# Altium footprint library FUSES.PcbLib: 7 footprints
Each footprint in its own frame and in the unit in brackets; x right, y up, seen from the top. Pads: shape width x height; smd on the part's side, far side on the other; paste and mask are expansions set on the pad; w line width, h text height; cw(c..) or ccw(c..) is an arc to the next point about the centre after c.
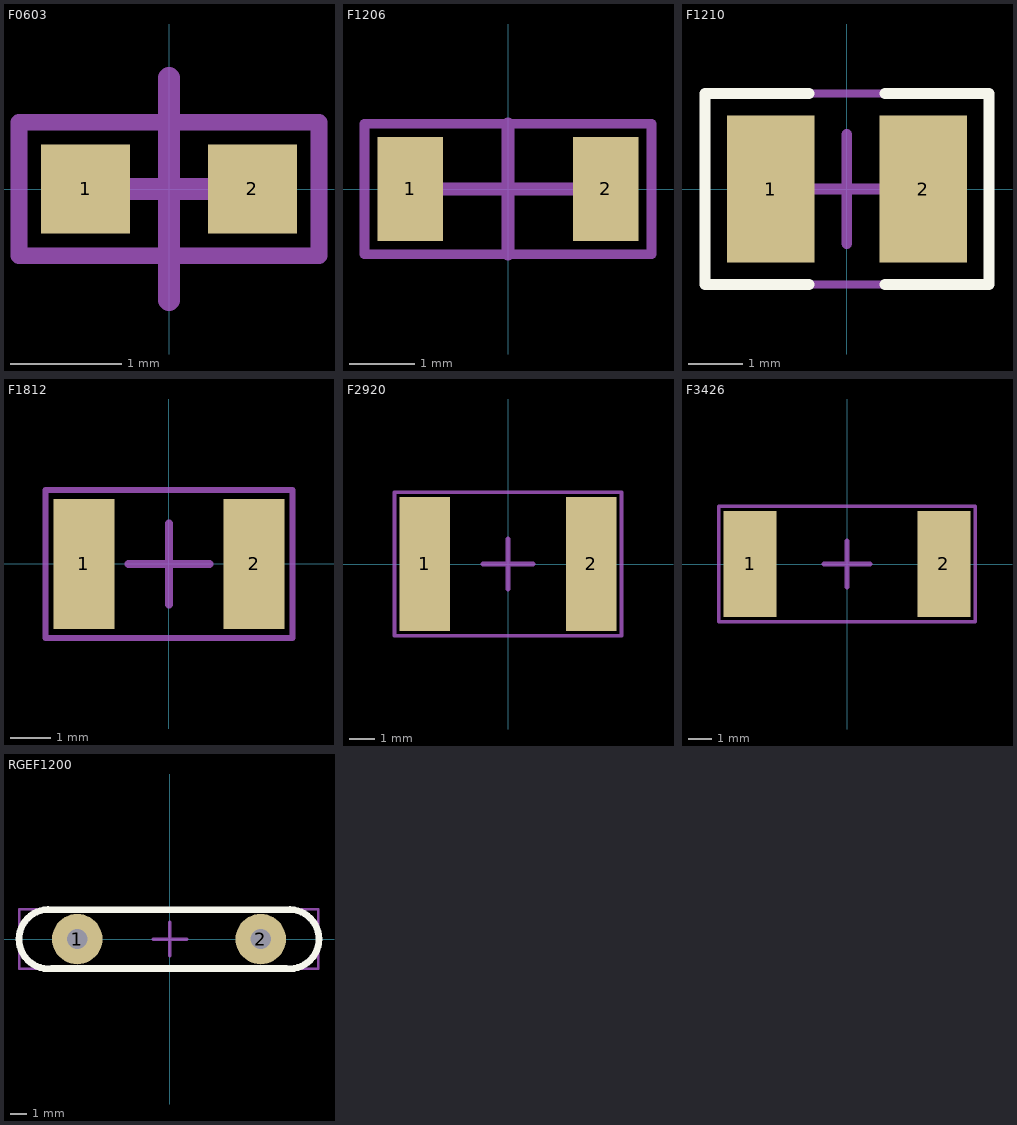
[diagram p0: the footprints below, top view; thin cyan lines are the x and y axes]

## F0603 [mm]
pads (2):
  rect 0.8x0.8 smd: 1(-0.75,0) 2(0.75,0)
Top Assembly:
  lines w0.15: -1.35,-0.6 -1.35,0.6 1.35,0.6 1.35,-0.6 -1.35,-0.6
  text ".Designator" at -1.125,-0.4 h0.6
Top Component Center:
  lines w0.2: -1,0 1,0 ; 0,-1 0,1
3D body: height 0.95, standoff 0, extent 0.397,-0.425 0.825,0.425
3D body: height 0.95, standoff 0, extent -0.8,-0.4 0.8,0.4
3D body: height 0.95, standoff 0, extent -0.825,-0.425 -0.4,0.425

## F1206 [mm]
pads (2):
  rect 1x1.6 smd: 1(-1.5,0) 2(1.5,0)
Top Assembly:
  lines w0.15: -2.2,-1 -2.2,1 2.2,1 2.2,-1 -2.2,-1
  text ".Designator" at -1.625,-0.425 h0.7
Top Component Center:
  lines w0.2: -1,0 1,0 ; 0,-1 0,1
3D body: height 1.11, standoff 0, extent -1.725,-0.925 -1.45,0.925
3D body: height 1.1, standoff 0, extent -1.706,-0.902 1.706,0.902
3D body: height 1.11, standoff 0, extent 1.45,-0.925 1.725,0.925

## F1210 [mm]
pads (2):
  rect 1.6x2.7 smd: 1(-1.395,0) 2(1.405,0)
Top Overlay:
  lines w0.2: -0.695,-1.75 -2.595,-1.75 -2.595,1.75 -0.695,1.75 ; 0.705,-1.75 2.605,-1.75 2.605,1.75 0.705,1.75
Top Assembly:
  lines w0.15: -2.6,-1.75 -2.6,1.75 2.6,1.75 2.6,-1.75 -2.6,-1.75
  text ".Designator" at -1.925,-0.425 h1
Top Component Center:
  lines w0.2: -1,0 1,0 ; 0,-1 0,1
3D body: height 0.81, standoff 0, extent 0.988,-1.425 1.725,1.426
3D body: height 0.8, standoff 0, extent -1.706,-1.401 1.706,1.401
3D body: height 0.81, standoff 0, extent -1.694,-1.426 -0.956,1.426

## F1812 [mm]
pads (2):
  rect 1.5x3.2 smd: 1(-2.1,0) 2(2.1,0)
Top Assembly:
  lines w0.15: -3.05,-1.825 3.05,-1.825 3.05,1.825 -3.05,1.825 -3.05,-1.825
  text ".Designator" at -2.325,-0.825 h1.5
Top Component Center:
  lines w0.2: -1,0 1,0 ; 0,-1 0,1
3D body: height 1.1, standoff 0, extent -2.363,-1.7 2.363,1.7
3D body: height 1.11, standoff 0, extent -2.375,-1.725 -2.075,1.725
3D body: height 1.11, standoff 0, extent 2.075,-1.725 2.375,1.725

## F2920 [mm]
pads (2):
  rect 2x5.3 smd: 1(-3.3,0) 2(3.3,0)
Top Assembly:
  lines w0.15: -4.5,-2.85 -4.5,2.85 4.5,2.85 4.5,-2.85 -4.5,-2.85
  text ".Designator" at -3.225,-0.85 h1.5
Top Component Center:
  lines w0.2: -1,0 1,0 ; 0,-1 0,1
3D body: height 1.25, standoff 0, extent -4.025,-2.725 -2.925,2.725
3D body: height 1.25, standoff 0, extent -3.994,-2.7 3.994,2.7
3D body: height 1.25, standoff 0, extent 2.944,-2.725 4.044,2.725

## F3426 [mm]
pads (2):
  rect 2.3x4.6 smd: 1(-4.2,0) 2(4.2,0)
Top Assembly:
  lines w0.15: -5.55,-2.5 -5.55,2.5 5.55,2.5 5.55,-2.5 -5.55,-2.5
  text ".Designator" at -3.4,-0.95 h1.5
Top Component Center:
  lines w0.2: -1,0 1,0 ; 0,-1 0,1
3D body: height 2.57, standoff 2, extent -4.769,-3.35 4.769,3.35
3D body: height 0.43, standoff 0, extent -4.75,-1.837 -4.25,1.838
3D body: height 2.57, standoff 0.43, extent -4.75,-3.35 -4.25,3.363
3D body: height 0.43, standoff 0, extent 4.275,-1.812 4.775,1.863
3D body: height 1, standoff 0.43, extent 4.275,-3.356 4.775,3.356
3D body: height 1.6, standoff 1, extent -1.947,-3.35 4.797,3.35
3D body: height 2, standoff 1.5, extent -1.947,-3.35 4.797,3.35

## RGEF1200 [mm]
pads (2):
  round 3 hole 1.2: 1(-5.5,0) 2(5.4,0)
Top Overlay:
  lines w0.4: -7.017,-1.75 cw(c-7.2,0) -7.017,1.75 6.917,1.75 cw(c7.1,0) 6.917,-1.75 -7.017,-1.75
Top Assembly:
  lines w0.15: -8.95,-1.75 -8.95,1.775 8.825,1.775 8.825,-1.75 -8.95,-1.75
  text ".Designator" at -3.4,-0.8 h1.5
Top Component Center:
  lines w0.2: -1,0 1,0 ; 0,-1 0,1